# Altium integrated library TS1117BCW50_RPG.IntLib: 1 symbol
Pins are listed as number, name and electrical type; pins without a type are passive.

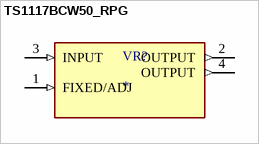
[diagram p0: symbol TS1117BCW50_RPG]

## TS1117BCW50_RPG
designator VR?
MP: TS1117BCW50_RPG; Package: None; Price: None; Value: *; Availability: Unavailable
footprint VREG_TS1117BCW50_RPG
pins: 1 FIXED/ADJ (in), 2 OUTPUT (out), 3 INPUT (in), 4 OUTPUT (out)